# Altium schematic symbol library LD59030DTPU33R.SchLib: 1 symbol
Pins are listed as number, name and electrical type; pins without a type are passive.

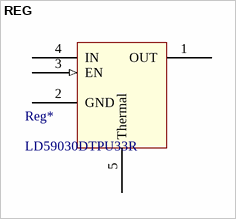
[diagram p0: symbol REG]

## REG
designator Reg*, comment LD59030DTPU33R
LD59030DTPU33R 3.3V regulator
pins: 1 OUT, 2 GND, 3 EN (in), 4 IN, 5 Thermal